# Altium schematic symbol library Unclassified device.SchLib: 5 symbols
Pins are listed as number, name and electrical type; pins without a type are passive.

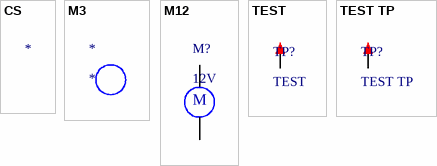
[diagram p0: symbols CS to TEST TP]

## CS
designator *
Probe pad; BOM名称: 探针焊盘; 版权归属: 源创客; 学习资源: www.ooocke.com
footprint R100 (R100探针焊盘)

## M3
designator *
Copper column hole; BOM名称: 铜柱孔; 版权归属: 源创客; 学习资源: www.ooocke.com
footprint M3 140X350 (M3螺丝孔，孔140Mil，焊盘350Mil)
footprint M3 125X300 (M3螺丝孔，孔125Mil，焊盘300Mil)
footprint M3 125X200 (M3螺丝孔，孔125Mil，焊盘200Mil)

## M12
designator M?, comment 12V
DC; BOM名称: 直流电机; 版权归属: 源创客; 学习资源: www.ooocke.com
footprint XH2.54-2P (接插件，2P)
pins: 1, 2
text: M

## TEST
designator TP?
Test point; BOM名称: 测试点; 版权归属: 源创客; 学习资源: www.ooocke.com
footprint TEST 1 (测试点1mm)
footprint TEST 1.6 (测试点1.6mm)
footprint TEST 1.4 (测试点1.4mm)
footprint TEST 1.8 (测试点1.8mm)
footprint TEST 1.2 (测试点1.2mm)
pins: 1

## TEST TP
designator TP?
Test ring; BOM名称: 测试环; 版权归属: 源创客; 学习资源: www.ooocke.com
footprint TEST TP1.4_B (蓝色，测试环)
footprint TEST TP1.4_R (红色，测试环)
footprint TEST TP1.4_G (绿色，测试环)
footprint TEST TP1.4_W (白色，测试环)
footprint TEST TP1.4_Y (黄色，测试环)
footprint TEST TP1.4_BK (黑色，测试环)
pins: 1